# EAGLE library part VNH5019 (library VNH)
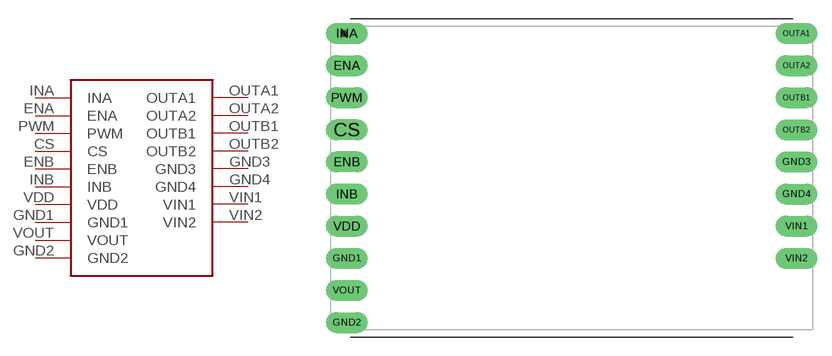
[diagram p0: symbol with the pads of DIP3302W60P254L2400H500Q20B; footprint DIP3302W60P254L2400H500Q20B]

Designator prefix -

## VNH5019VNH5019BOARD  [DIP3302W60P254L2400H500Q20B]
CS  CS
ENA  ENA
ENB  ENB
GND1  GND1
GND2  GND2
GND3  GND3
GND4  GND4
INA  INA
INB  INB
OUTA1  OUTA1
OUTA2  OUTA2
OUTB1  OUTB1
OUTB2  OUTB2
PWM  PWM
VDD  VDD
VIN1  VIN1
VIN2  VIN2
VOUT  VOUT

## Footprint DIP3302W60P254L2400H500Q20B (pad centres in mm)
20-DIP, 2.54 mm (0.10 in) pitch, 33.02 mm (1.30 in) span, 24.00 X 35.00 X 5.00 mm body 20-pin DIP package with 2.54 mm (0.10 in) pitch, 33.02 mm (1.30 in) span with body size 24.00 X 35.00 X 5.00 mm
drill 1.048 pad 1.649 long: CS -17.78,3.81; ENA -17.78,8.89; ENB -17.78,1.27; GND1 -17.78,-6.35; GND2 -17.78,-11.43; GND3 17.78,1.27; GND4 17.78,-1.27; INA -17.78,11.43; INB -17.78,-1.27; OUTA1 17.78,11.43; OUTA2 17.78,8.89; OUTB1 17.78,6.35; OUTB2 17.78,3.81; PWM -17.78,6.35; VDD -17.78,-3.81; VIN1 17.78,-3.81; VIN2 17.78,-6.35; VOUT -17.78,-8.89